# Altium schematic symbol library FQDMDSchematicLibrary.SchLib: 16 symbols (part 2 of 2)
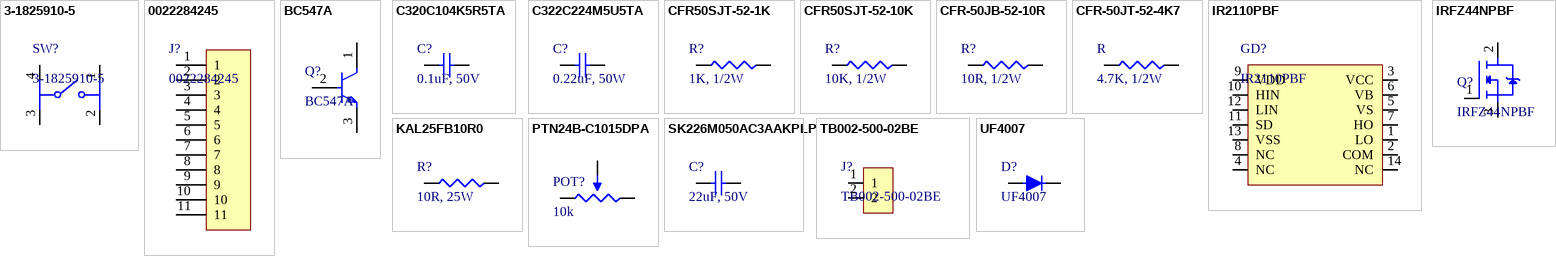
[diagram p1: symbols 3-1825910-5 to UF4007]

## PTN24B-C1015DPA
designator POT?, comment 10k
POT 10K OHM 1/2W CARBON LOG; Manufacturer: Same Sky; Manufacturer Part Number: PTN24B-C1015DPA; Number of Turns: 1; Power Rating: 500mW; Value: 10kΩ; Tolerance: 20%; Working Voltage: 200V; Supplier: DigiKey; Supplier Part Number: 2223-PTN24B-C1015DPA-ND; Category: Variable Resistors and Potentiometers; Stock: 981; Pricing: 1=1.52, 10=1.27, 40=1.1365, 80=1.07475, 120=1.04, 280=0.97075, 520=0.9229, 1000=0.87477, 5000=0.76632 (USD); Composition: Carbon; Height: 30.5mm; Length: 24mm; Lifecycle Status: Production; Max Operating Temperature: 75°C; Min Operating Temperature: -10°C; Number of Terminals: 3; Width: 20.2mm; ComponentLink1URL: https://datasheet.octopart.com:443/PTN24B-C1015DPA-Same-Sky-datasheet-188841729.pdf?src-supplier=Same+Sky; ComponentLink1Description: https://datasheet.octopart.com:443/PTN24B-C1015DPA-Same-Sky-datasheet-188841729.pdf?src-supplier=Same+Sky; ComponentLink2URL: https://datasheet.octopart.com:443/PTN24B-C1015DPA-Same-Sky-datasheet-181918476.pdf?src-supplier=Same+Sky; ComponentLink2Description: https://datasheet.octopart.com:443/PTN24B-C1015DPA-Same-Sky-datasheet-181918476.pdf?src-supplier=Same+Sky; ComponentLink3URL: https://datasheet.octopart.com:443/PTN24B-C1015DPA-Same-Sky-datasheet-181918471.pdf?src-supplier=Same+Sky; ComponentLink3Description: https://datasheet.octopart.com:443/PTN24B-C1015DPA-Same-Sky-datasheet-181918471.pdf?src-supplier=Same+Sky; ComponentLink4URL: https://datasheet.octopart.com:443/PTN24B-C1015DPA-Same-Sky-datasheet-187906917.pdf?src-supplier=Master+Electronics; ComponentLink4Description: https://datasheet.octopart.com:443/PTN24B-C1015DPA-Same-Sky-datasheet-187906917.pdf?src-supplier=Master+Electronics; ComponentLink5URL: https://datasheet.octopart.com:443/PTN24B-C1015DPA-Same-Sky-datasheet-189105520.pdf?src-supplier=Master+Electronics; ComponentLink5Description: https://datasheet.octopart.com:443/PTN24B-C1015DPA-Same-Sky-datasheet-189105520.pdf?src-supplier=Master+Electronics; ComponentLink6URL: https://datasheet.octopart.com:443/PTN24B-C1015DPA-Same-Sky-datasheet-192883988.pdf?src-supplier=Farnell; ComponentLink6Description: https://datasheet.octopart.com:443/PTN24B-C1015DPA-Same-Sky-datasheet-192883988.pdf?src-supplier=Farnell; ComponentLink7URL: https://octopart.com:443/opatz8j6/c1?t=YQRvJ7gDvh_EQ6R75LgrlhbzJglIWd-Zs-_TbWp9zzyS7xMEun0TqdaotDUHxDpGHEwURK-qfBlwVEWsgmJ0dE_NkcOaHL_GalHLrllO6E0Q7Xd0_452wpsmYPPehPzYW7FYgN5IpniQC1llIPTmjl1R-X3y0ZwnLQdchG7SU2B74IZYJi5oMmDHXItJ8HB_66yRldMRj6y66xrmhr26xQMskvOoLNNikJogOuzL1tJULQfIXBCT1DzwDpjG562-6ncgU8LRDtMIOWUOES9GsFYQpzR-evdIEES4ZdYPzshuVnkkwEBwSdYe6QtQwjP6VBrh2au9hzVLXuEBhQ5corUWXPIk73f3o_0ns4L5rEXh&src-supplier=Compliance+Statements; ComponentLink7Description: https://octopart.com:443/opatz8j6/c1?t=YQRvJ7gDvh_EQ6R75LgrlhbzJglIWd-Zs-_TbWp9zzyS7xMEun0TqdaotDUHxDpGHEwURK-qfBlwVEWsgmJ0dE_NkcOaHL_GalHLrllO6E0Q7Xd0_452wpsmYPPehPzYW7FYgN5IpniQC1llIPTmjl1R-X3y0ZwnLQdchG7SU2B74IZYJi5oMmDHXItJ8HB_66yRldMRj6y66xrmhr26xQMskvOoLNNikJogOuzL1tJULQfIXBCT1DzwDpjG562-6ncgU8LRDtMIOWUOES9GsFYQpzR-evdIEES4ZdYPzshuVnkkwEBwSdYe6QtQwjP6VBrh2au9hzVLXuEBhQ5corUWXPIk73f3o_0ns4L5rEXh&src-supplier=Compliance+Statements; ComponentLink8URL: https://octopart.com:443/opatz8j6/c1?t=yd0XYqWMQOmLluRv1C33-lZKEhVePz7XjnhThX6xqc96f4wNtB5e1Jbbv_1ORIn0evzpUUOuwvSmkarLiepKyho86S4EXcajkEE52BANwgWr0sIq6zrlTKh73_f7uOZt13Mb82hWrjD7I3lD3Ftr80wI9hLT-eTEfiya_13K5Qre34dPnBCCDxNYjkzOwn6Kt4c5X8T-cXrdUkH7yrtsugvcjtzYxjkosQOIHkjPgsySin-0QnifZVVz4uC5OD642sJuQRzaDfPkMYIcQJd8or-eqt48xKsuAObUMiEGJVgs09SbKBMJX_o4qesJ3Q8--CuJe_Y8cmF3aL60XXS0fN005lPkr91m1SPBLahdUIDd&src-supplier=Compliance+Statements; ComponentLink8Description: https://octopart.com:443/opatz8j6/c1?t=yd0XYqWMQOmLluRv1C33-lZKEhVePz7XjnhThX6xqc96f4wNtB5e1Jbbv_1ORIn0evzpUUOuwvSmkarLiepKyho86S4EXcajkEE52BANwgWr0sIq6zrlTKh73_f7uOZt13Mb82hWrjD7I3lD3Ftr80wI9hLT-eTEfiya_13K5Qre34dPnBCCDxNYjkzOwn6Kt4c5X8T-cXrdUkH7yrtsugvcjtzYxjkosQOIHkjPgsySin-0QnifZVVz4uC5OD642sJuQRzaDfPkMYIcQJd8or-eqt48xKsuAObUMiEGJVgs09SbKBMJX_o4qesJ3Q8--CuJe_Y8cmF3aL60XXS0fN005lPkr91m1SPBLahdUIDd&src-supplier=Compliance+Statements
footprint Potentiometer
pins: 1, 2, 3

## SK226M050AC3AAKPLP
designator C?, comment 22uF, 50V
CAP ALUM 22UF 20% 50V RADIAL TH; Manufacturer: Yageo Group; Manufacturer Part Number: SK226M050AC3AAKPLP; Supplier: DigiKey; Supplier Part Number: 399-6108-ND; Category: Capacitors; Stock: 13633; Pricing: 1=0.17, 10=0.105, 50=0.0756, 100=0.0661, 500=0.04946, 1000=0.04419, 2500=0.03855, 5000=0.03511 (USD)
footprint Capacitor_Polarized_TH
pins: 1, 2

## TB002-500-02BE
designator J?
TERMINAL BLOCK, SCREW TYPE, 5.00; Manufacturer: Same Sky; Approvals: CE, EN, IEC, UL, cUL; Current Rating: 15A; Number of Contacts: 2; Number of Levels: 1; Pitch: 5mm; Voltage Rating: 300V; Wire/Cable Gauge: 12AWG; Supplier: DigiKey; Supplier Part Number: 102-6145-ND; Manufacturer Part Number: TB002-500-02BE; RoHS: Compliant; Category: Terminal Blocks; Stock: 119506; Pricing: 1=0.32, 10=0.242, 25=0.212, 50=0.191, 100=0.1721, 250=0.15076, 500=0.13744, 3000=0.11318, 6000=0.10697 (USD); Color: Blue; Export Control Classification Number (ECCN) Code: EAR99; Height: 10mm; Harmonized Tariff Schedule (HTS) Code: 8536.90.40.00; Introduction Date: 2024-10-09; Lifecycle Status: Production; Max Operating Temperature: 105°C; Min Operating Temperature: -40°C; Mounting Technology: Screw; Pins: 2; Number of Rows: 1; Orientation: Horizontal; REACH SVHC: No; Width: 7.6mm; ComponentLink1URL: https://datasheet.octopart.com:443/TB002-500-02BE-Same-Sky-datasheet-181920249.pdf?src-supplier=Same+Sky; ComponentLink1Description: https://datasheet.octopart.com:443/TB002-500-02BE-Same-Sky-datasheet-181920249.pdf?src-supplier=Same+Sky; ComponentLink2URL: https://datasheet.octopart.com:443/TB002-500-02BE-CUI-Devices-datasheet-175928133.pdf?src-supplier=Same+Sky; ComponentLink2Description: https://datasheet.octopart.com:443/TB002-500-02BE-CUI-Devices-datasheet-175928133.pdf?src-supplier=Same+Sky; ComponentLink3URL: https://datasheet.octopart.com:443/TB002-500-02BE-CUI-Devices-datasheet-144794938.pdf?src-supplier=Same+Sky; ComponentLink3Description: https://datasheet.octopart.com:443/TB002-500-02BE-CUI-Devices-datasheet-144794938.pdf?src-supplier=Same+Sky; ComponentLink4URL: https://datasheet.octopart.com:443/TB002-500-02BE-CUI-Devices-datasheet-180438470.pdf?src-supplier=IHS; ComponentLink4Description: https://datasheet.octopart.com:443/TB002-500-02BE-CUI-Devices-datasheet-180438470.pdf?src-supplier=IHS; ComponentLink5URL: https://datasheet.octopart.com:443/TB002-500-02BE-Same-Sky-datasheet-190142077.pdf?src-supplier=element14+APAC; ComponentLink5Description: https://datasheet.octopart.com:443/TB002-500-02BE-Same-Sky-datasheet-190142077.pdf?src-supplier=element14+APAC; ComponentLink6URL: https://datasheet.octopart.com:443/TB002-500-02BE-Same-Sky-datasheet-182881440.pdf?src-supplier=Electro+Sonic; ComponentLink6Description: https://datasheet.octopart.com:443/TB002-500-02BE-Same-Sky-datasheet-182881440.pdf?src-supplier=Electro+Sonic; ComponentLink7URL: https://datasheet.octopart.com:443/TB002-500-02BE-CUI-Devices-datasheet-154730744.pdf?src-supplier=Electro+Sonic; ComponentLink7Description: https://datasheet.octopart.com:443/TB002-500-02BE-CUI-Devices-datasheet-154730744.pdf?src-supplier=Electro+Sonic; ComponentLink8URL: https://datasheet.octopart.com:443/TB002-500-02BE-Same-Sky-datasheet-189105710.pdf?src-supplier=Master+Electronics; ComponentLink8Description: https://datasheet.octopart.com:443/TB002-500-02BE-Same-Sky-datasheet-189105710.pdf?src-supplier=Master+Electronics; ComponentLink9URL: https://datasheet.octopart.com:443/TB002-500-02BE-Same-Sky-datasheet-182050243.pdf?src-supplier=Future+Electronics; ComponentLink9Description: https://datasheet.octopart.com:443/TB002-500-02BE-Same-Sky-datasheet-182050243.pdf?src-supplier=Future+Electronics; ComponentLink10URL: https://datasheet.octopart.com:443/TB002-500-02BE-CUI-Devices-datasheet-175928501.pdf?src-supplier=Future+Electronics; ComponentLink10Description: https://datasheet.octopart.com:443/TB002-500-02BE-CUI-Devices-datasheet-175928501.pdf?src-supplier=Future+Electronics; ComponentLink11URL: https://datasheet.octopart.com:443/TB002-500-02BE-CUI-Devices-datasheet-147843962.pdf?src-supplier=Future+Electronics; ComponentLink11Description: https://datasheet.octopart.com:443/TB002-500-02BE-CUI-Devices-datasheet-147843962.pdf?src-supplier=Future+Electronics; ComponentLink12URL: https://datasheet.octopart.com:443/TB002-500-02BE-CUI-Devices-datasheet-175927966.pdf?src-supplier=CUI+Devices+SCT; ComponentLink12Description: https://datasheet.octopart.com:443/TB002-500-02BE-CUI-Devices-datasheet-175927966.pdf?src-supplier=CUI+Devices+SCT; ComponentLink13URL: https://datasheet.octopart.com:443/TB002-500-02BE-CUI-Devices-datasheet-142371903.pdf?src-supplier=CUI+Devices+SCT; ComponentLink13Description: https://datasheet.octopart.com:443/TB002-500-02BE-CUI-Devices-datasheet-142371903.pdf?src-supplier=CUI+Devices+SCT; ComponentLink14URL: https://octopart.com:443/opatz8j6/c1?t=_d6XHqiISyMdz3GqDMpMVa-p_Jvkhvp5sNnCxcqWn_ULod65gYyeqtAU8mXIOh_Wg3w2RS8HUug8ukSetojDAYe4l9KdGQaHiEH-3uZoBX-ARHQ6m2-ifzFE8jWQyJanpY4-5hgJQ_3uAuJWX4Q_8gyYBLQP3-YByoJQkMZpVu2WGBRUizTI5j8332Nq1mENTS_ZWr51M3q1bd2u_-I4oRWUlnttELbb7Gqti6_mAy0BopwOYrCwQx9N8_qpRDW3jqACwInZ-biH7uwZUrr_ikmLrRkSJJSa1GtQqZAAkN6J57ershcppnqRGbLvO5pqO2zJ1RZ-7UEyE_sttVIoYe03865RlRVm6Ua41WuIkExvrQ&src-supplier=Compliance+Statements; ComponentLink14Description: https://octopart.com:443/opatz8j6/c1?t=_d6XHqiISyMdz3GqDMpMVa-p_Jvkhvp5sNnCxcqWn_ULod65gYyeqtAU8mXIOh_Wg3w2RS8HUug8ukSetojDAYe4l9KdGQaHiEH-3uZoBX-ARHQ6m2-ifzFE8jWQyJanpY4-5hgJQ_3uAuJWX4Q_8gyYBLQP3-YByoJQkMZpVu2WGBRUizTI5j8332Nq1mENTS_ZWr51M3q1bd2u_-I4oRWUlnttELbb7Gqti6_mAy0BopwOYrCwQx9N8_qpRDW3jqACwInZ-biH7uwZUrr_ikmLrRkSJJSa1GtQqZAAkN6J57ershcppnqRGbLvO5pqO2zJ1RZ-7UEyE_sttVIoYe03865RlRVm6Ua41WuIkExvrQ&src-supplier=Compliance+Statements; ComponentLink15URL: https://octopart.com:443/opatz8j6/c1?t=Fh69FySCC_FAAITLVE20KKXwtHtQqkTpoHLNA6Z5YWYFueRwD4q49mEj9O9PRSxBrakavMa31Pa8kd2r3fYUKygL4RoD-kVc1x4qeVz3Yb9Pj4FEkxlHbt_3t9jKY8NB2ui6d_hLRmCwNRAYRZ24_P0tmGdPsByxrvC2nzaecyFyrp6kn2T08PGgBVJgh6FXjbVyu4vRobeiGXpbDCwy7JXDj3RZnbTNNHDLzEi8aUUrQbLL6FvcrfvY9UcC4Z7NM0Mp6QYBnO31ttLBYTUSmmGYQD3BQuI437raKxIIRRpjklxenHLcr9SWZqtlQVlh5tRKpJeLIZOkwryk9ldPQbrjzf6tItEiepShso4m&src-supplier=Compliance+Statements; ComponentLink15Description: https://octopart.com:443/opatz8j6/c1?t=Fh69FySCC_FAAITLVE20KKXwtHtQqkTpoHLNA6Z5YWYFueRwD4q49mEj9O9PRSxBrakavMa31Pa8kd2r3fYUKygL4RoD-kVc1x4qeVz3Yb9Pj4FEkxlHbt_3t9jKY8NB2ui6d_hLRmCwNRAYRZ24_P0tmGdPsByxrvC2nzaecyFyrp6kn2T08PGgBVJgh6FXjbVyu4vRobeiGXpbDCwy7JXDj3RZnbTNNHDLzEi8aUUrQbLL6FvcrfvY9UcC4Z7NM0Mp6QYBnO31ttLBYTUSmmGYQD3BQuI437raKxIIRRpjklxenHLcr9SWZqtlQVlh5tRKpJeLIZOkwryk9ldPQbrjzf6tItEiepShso4m&src-supplier=Compliance+Statements; ComponentLink16URL: https://octopart.com:443/opatz8j6/c1?t=ZFxnMsm8sK3bD_kGUlZ1vBoLjtd3_wnTa5xCvrzWhqbv33Rbc1Vzl0KqEsDBOeYS-6nO5bqMiBMEbYeAxLQwKUbqTTlr9DGpqRpUh6_FciqCjj7lLOifF1By89luP7-VGXvA_aSs-Q8fic8YTZbO-yiWmglfOoz_DpnNKa0PZ7oxIKexP9wQrKgK6QKdf50TpcL_OfMCF0XFrhvmFs4hxPs1bqlQy7ktkiZKWcaQTV0U73jFrPMQ0U6W7adLUaPkfXicQfiwn6Iuk9lym1IjoLcKSr9Ir93zO2AylXmdyJhs9hAIgAOLhZsKLNWxFjSJqn4uB1VXAHsScVhsV3E83a4_oxNw2TrVibyCM28fsLWi4Q&src-supplier=Compliance+Statements; ComponentLink16Description: https://octopart.com:443/opatz8j6/c1?t=ZFxnMsm8sK3bD_kGUlZ1vBoLjtd3_wnTa5xCvrzWhqbv33Rbc1Vzl0KqEsDBOeYS-6nO5bqMiBMEbYeAxLQwKUbqTTlr9DGpqRpUh6_FciqCjj7lLOifF1By89luP7-VGXvA_aSs-Q8fic8YTZbO-yiWmglfOoz_DpnNKa0PZ7oxIKexP9wQrKgK6QKdf50TpcL_OfMCF0XFrhvmFs4hxPs1bqlQy7ktkiZKWcaQTV0U73jFrPMQ0U6W7adLUaPkfXicQfiwn6Iuk9lym1IjoLcKSr9Ir93zO2AylXmdyJhs9hAIgAOLhZsKLNWxFjSJqn4uB1VXAHsScVhsV3E83a4_oxNw2TrVibyCM28fsLWi4Q&src-supplier=Compliance+Statements; ComponentLink17URL: https://octopart.com:443/opatz8j6/c1?t=VHr7NaVe6D59iZsQQE60n8UI8GKnW7XBfT2cpY_5hBpGdOxnwbnsYcObjOlO5SPd7j1Y_eq0KLMA6vVg8wksPOR1baprHzaQWSi5QXTpvLsTIdCeJNcD4FG3FRVGioUqfNbDK_2u_JsLrVICQxHg6QdtXBp0Iznmn0fICWO7GQbQKq7q6HDTYUbFY5k-7KTF5O-lxIzS7RlH-GyKmf-3fgnfrjINXiTF4AUFp5D8bLPGWxHUzku-PH3wrMtUu9p9-7d3ZEfcNtR0jaQ7c11llhmLVTUcdwCd53QoqbVnvWJrfQdScf93rdF94vRPCZLKpB2mzy-IRH-Igm1TSdTqhMa1TrhLqLEnjLxhOp8K&src-supplier=Compliance+Statements; ComponentLink17Description: https://octopart.com:443/opatz8j6/c1?t=VHr7NaVe6D59iZsQQE60n8UI8GKnW7XBfT2cpY_5hBpGdOxnwbnsYcObjOlO5SPd7j1Y_eq0KLMA6vVg8wksPOR1baprHzaQWSi5QXTpvLsTIdCeJNcD4FG3FRVGioUqfNbDK_2u_JsLrVICQxHg6QdtXBp0Iznmn0fICWO7GQbQKq7q6HDTYUbFY5k-7KTF5O-lxIzS7RlH-GyKmf-3fgnfrjINXiTF4AUFp5D8bLPGWxHUzku-PH3wrMtUu9p9-7d3ZEfcNtR0jaQ7c11llhmLVTUcdwCd53QoqbVnvWJrfQdScf93rdF94vRPCZLKpB2mzy-IRH-Igm1TSdTqhMa1TrhLqLEnjLxhOp8K&src-supplier=Compliance+Statements
footprint Terminal_Block
pins: 1, 2

## UF4007
designator D?
DIODE STANDARD 1000V 1A DO204AC; Manufacturer: Diotec; Manufacturer Lifecycle Status: ACTIVE; Element Configuration: Single; Forward Voltage: 1.7V; Max Forward Surge Current (Ifsm): 30A; Number of Elements: 1; Peak Non-Repetitive Surge Current: 33A; Peak Reverse Current: 5µA; Recovery Time: 75ns; Reverse Standoff Voltage: 1kV; Supplier: DigiKey; Supplier Part Number: 4878-UF4007TB-ND; Manufacturer Part Number: UF4007; RoHS: Compliant; Category: Rectifier Diodes; Stock: 19057; Pricing: 5000=0.05922, 10000=0.05352, 15000=0.0506, 25000=0.04733, 35000=0.04539, 50000=0.04351 (USD); Country of Origin: Mainland China; Export Control Classification Number (ECCN) Code: EAR99; Harmonized Tariff Schedule (HTS) Code: 85411000; Introduction Date: 2000-05-29; Lifecycle Status: Production; Max Operating Temperature: 150°C; Max Output current: 1A; Min Operating Temperature: -50°C; Mounting Technology: Axial; Pins: 2; Number of Terminals: 2; REACH SVHC: Unknown; Reverse Recovery Time: 75ns; Schedule B: 8541100080, 8541100080|8541100080, 8541100080|8541100080|8541100080, 8541100080|8541100080|8541100080|8541100080; Weight: 300mg; ComponentLink1URL: https://datasheet.octopart.com:443/UF4007-Diotec-datasheet-180727602.pdf?src-supplier=IHS; ComponentLink1Description: https://datasheet.octopart.com:443/UF4007-Diotec-datasheet-180727602.pdf?src-supplier=IHS; ComponentLink2URL: https://datasheet.octopart.com:443/UF4007-Diotec-datasheet-180579404.pdf?src-supplier=IHS; ComponentLink2Description: https://datasheet.octopart.com:443/UF4007-Diotec-datasheet-180579404.pdf?src-supplier=IHS; ComponentLink3URL: https://datasheet.octopart.com:443/UF4007-Diotec-datasheet-168810295.pdf?src-supplier=Diotec; ComponentLink3Description: https://datasheet.octopart.com:443/UF4007-Diotec-datasheet-168810295.pdf?src-supplier=Diotec; ComponentLink4URL: https://datasheet.octopart.com:443/UF4007-Diotec-datasheet-20772177.pdf?src-supplier=Component+Distributors+Inc.; ComponentLink4Description: https://datasheet.octopart.com:443/UF4007-Diotec-datasheet-20772177.pdf?src-supplier=Component+Distributors+Inc.; ComponentLink5URL: https://datasheet.octopart.com:443/UF4007-Diotec-datasheet-113245491.pdf?src-supplier=TME; ComponentLink5Description: https://datasheet.octopart.com:443/UF4007-Diotec-datasheet-113245491.pdf?src-supplier=TME; ComponentLink6URL: https://datasheet.octopart.com:443/UF4007-Diotec-datasheet-151952907.pdf?src-supplier=SOS+electronic; ComponentLink6Description: https://datasheet.octopart.com:443/UF4007-Diotec-datasheet-151952907.pdf?src-supplier=SOS+electronic; ComponentLink7URL: https://datasheet.octopart.com:443/UF4007-Diotec-datasheet-189099727.pdf?src-supplier=Master+Electronics; ComponentLink7Description: https://datasheet.octopart.com:443/UF4007-Diotec-datasheet-189099727.pdf?src-supplier=Master+Electronics
footprint Diode_TH (DIODE STANDARD 1000V 1A DO204AC)
pins: 1, 2